# EAGLE library part MA18-1 (library dec-con)
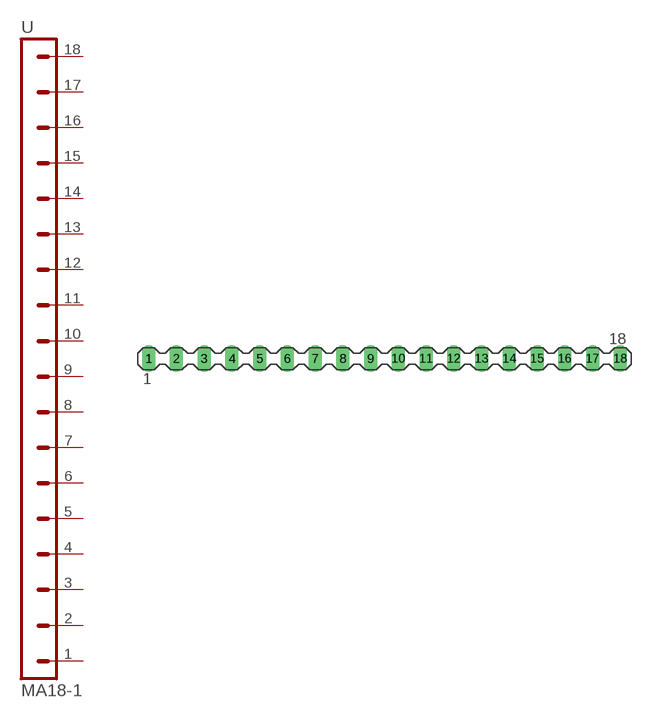
[diagram p25: symbol with the pads of MA18-1; footprint MA18-1]

Designator prefix -

## MA18-1  [MA18-1]
1  1  pas
2  2  pas
3  3  pas
4  4  pas
5  5  pas
6  6  pas
7  7  pas
8  8  pas
9  9  pas
10  10  pas
11  11  pas
12  12  pas
13  13  pas
14  14  pas
15  15  pas
16  16  pas
17  17  pas
18  18  pas

## Footprint MA18-1 (pad centres in mm)
PIN HEADER (.125")
drill 1.016 long: 1 -25.146,0; 2 -21.971,0; 3 -18.796,0; 4 -15.621,0; 5 -12.446,0; 6 -9.271,0; 7 -6.096,0; 8 -2.921,0; 9 0.254,0; 10 3.429,0; 11 6.604,0; 12 9.779,0; 13 12.954,0; 14 16.129,0; 15 19.304,0; 16 22.479,0; 17 25.654,0; 18 28.829,0